# EAGLE library part STM32F042F4PX (library led_matrix_master_lib)
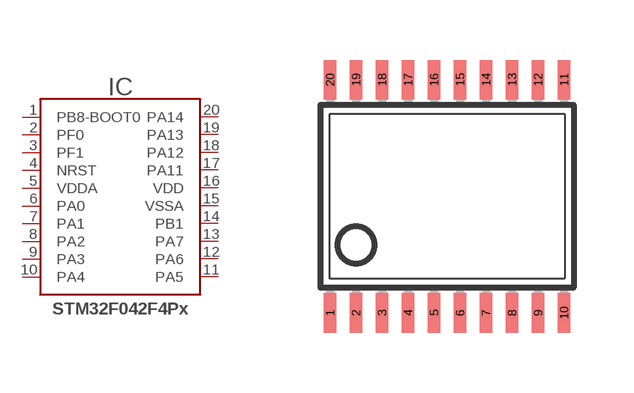
[diagram p7: symbol with the pads of TSSOP20; footprint TSSOP20]

Designator prefix IC

## STM32F042F4PX (COMPEL: http://www.compel.ru/infosheet/ST/STM32F042F4P6/; DIGIKEY#: STM32F042F4P6TR-ND; MANF: STMicroelectronics; MANF#: STM32F042F4P6)  [TSSOP20]
1  PB8-BOOT0
2  PF0
3  PF1
4  NRST
5  VDDA
6  PA0
7  PA1
8  PA2
9  PA3
10  PA4
11  PA5
12  PA6
13  PA7
14  PB1
15  VSSA
16  VDD
17  PA11
18  PA12
19  PA13
20  PA14

## Footprint TSSOP20 (pad centres in mm)
Thin Shrink Small Outline Plastic 20 MAX3223-MAX3243.pdf
smd 0.305 x 0.991: 1 -2.925,-2.918; 2 -2.275,-2.918; 3 -1.625,-2.918; 4 -0.975,-2.918; 5 -0.325,-2.918; 6 0.325,-2.918; 7 0.975,-2.918; 8 1.625,-2.918; 9 2.275,-2.918; 10 2.925,-2.918; 11 2.925,2.918; 12 2.275,2.918; 13 1.625,2.918; 14 0.975,2.918; 15 0.325,2.918; 16 -0.325,2.918; 17 -0.975,2.918; 18 -1.625,2.918; 19 -2.275,2.918; 20 -2.925,2.918